# EAGLE library part THS3062 (library ths3062)
THS3062 high bandwidth dual opamp https://www.ti.com/product/THS3062
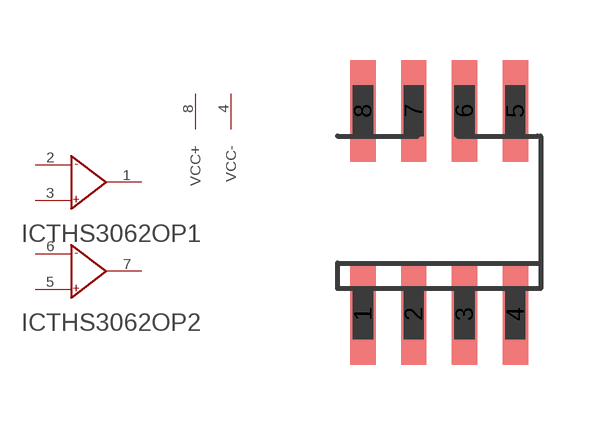
[diagram p0: symbol with the pads of SO08; footprint SO08]

Designator prefix IC; gates THS3062OP1=THS3062 THS3062OP2=THS3062 SUPPLY=SUPPLY

## THS3062  [SO08]
1  THS3062OP1:OUT  out
2  THS3062OP1:IN-  in
3  THS3062OP1:IN+  in
4  SUPPLY:VCC-  sup
5  THS3062OP2:IN+  in
6  THS3062OP2:IN-  in
7  THS3062OP2:OUT  out
8  SUPPLY:VCC+  sup

## Footprint SO08 (pad centres in mm)
smd 0.635 x 2.54: 1 -1.905,-2.54; 2 -0.635,-2.54; 3 0.635,-2.54; 4 1.905,-2.54; 5 1.905,2.54; 6 0.635,2.54; 7 -0.635,2.54; 8 -1.905,2.54